# Altium integrated library 885012004001_Altium_WCAP-CSGP_rev24c.IntLib: 1002 symbols (part 1 of 21)
Pins are listed as number, name and electrical type; pins without a type are passive.

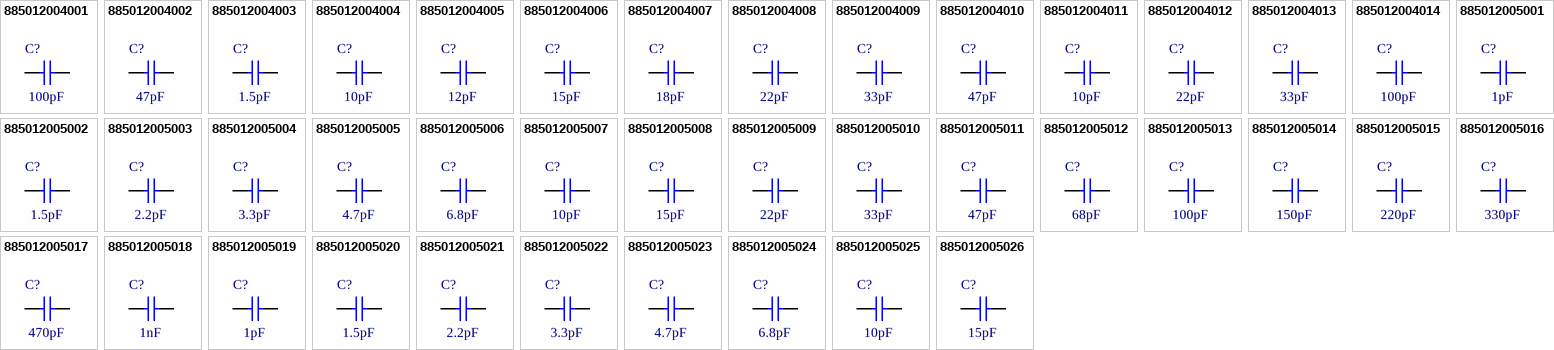
[diagram p0: symbols 885012004001 to 885012005026]

## 885012004001
designator C?, comment 100pF
WCAP-CSGP Multilayer Ceramic Chip Capacitor, General Purpose, size 0201, NP0 Class I, 100pF, 25V; Manufacturer Part Number: 885012004001; Manufacturer: Wurth Elektronik; Case/Size Code: 0201; Capacitance Tolerance: +/-5%; Insulation Resistance: 10GΩ; Q Factor: 1000; Technical Reference: NP00201101J025DFCT10000; Category: Multilayer Ceramic Chip Capacitors; Match Code: WCAP-CSGP; ComponentLink1Description: Website Link; ComponentLink1URL: https://www.we-online.com/redexpert/article/885012004001?ad; ComponentLink2Description: Datasheet Link; ComponentLink2URL: https://www.we-online.com/redexpert/spec/885012004001?ad; Mount: Surface Mount; Min Operating Temperature: -55°C; Max Operating Temperature: 125°C; Packaging: Tape and Reel; Length: 0.6mm; Width: 0.3mm; Height: 0.3mm; Capacitance: 100pF; Ceramic Type: NP0 Class I; Rated Voltage (DC): 25V
footprint WCAP-CSGP_0201_L0.6W0.3H0.3
simulation model 0201_885012004001_100pF
pins: 1, 2

## 885012004002
designator C?, comment 47pF
WCAP-CSGP Multilayer Ceramic Chip Capacitor, General Purpose, size 0201, NP0 Class I, 47pF, 50V; Manufacturer Part Number: 885012004002; Manufacturer: Wurth Elektronik; Case/Size Code: 0201; Capacitance Tolerance: +/-5%; Insulation Resistance: 10GΩ; Q Factor: 1000; Technical Reference: NP00201470J050DFCT10000; Category: Multilayer Ceramic Chip Capacitors; Match Code: WCAP-CSGP; ComponentLink1Description: Website Link; ComponentLink1URL: https://www.we-online.com/redexpert/article/885012004002?ad; ComponentLink2Description: Datasheet Link; ComponentLink2URL: https://www.we-online.com/redexpert/spec/885012004002?ad; Mount: Surface Mount; Min Operating Temperature: -55°C; Max Operating Temperature: 125°C; Packaging: Tape and Reel; Length: 0.6mm; Width: 0.3mm; Height: 0.3mm; Capacitance: 47pF; Ceramic Type: NP0 Class I; Rated Voltage (DC): 50V
footprint WCAP-CSGP_0201_L0.6W0.3H0.3
simulation model 0201_885012004002_47pF
pins: 1, 2

## 885012004003
designator C?, comment 1.5pF
WCAP-CSGP Multilayer Ceramic Chip Capacitor, General Purpose, size 0201, NP0 Class I, 1.5pF, 25V; Manufacturer Part Number: 885012004003; Manufacturer: Wurth Elektronik; Case/Size Code: 0201; Capacitance Tolerance: +/-0.25pF; Insulation Resistance: 10GΩ; Q Factor: 430; Technical Reference: NP002011R5C025DFCT10000; Category: Multilayer Ceramic Chip Capacitors; Match Code: WCAP-CSGP; ComponentLink1Description: Website Link; ComponentLink1URL: https://www.we-online.com/redexpert/article/885012004003?ad; ComponentLink2Description: Datasheet Link; ComponentLink2URL: https://www.we-online.com/redexpert/spec/885012004003?ad; Mount: Surface Mount; Min Operating Temperature: -55°C; Max Operating Temperature: 125°C; Packaging: Tape and Reel; Length: 0.6mm; Width: 0.3mm; Height: 0.3mm; Capacitance: 1.5pF; Ceramic Type: NP0 Class I; Rated Voltage (DC): 25V
footprint WCAP-CSGP_0201_L0.6W0.3H0.3
simulation model 0201_885012004003_1.5pF
pins: 1, 2

## 885012004004
designator C?, comment 10pF
WCAP-CSGP Multilayer Ceramic Chip Capacitor, General Purpose, size 0201, NP0 Class I, 10pF, 25V; Manufacturer Part Number: 885012004004; Manufacturer: Wurth Elektronik; Case/Size Code: 0201; Capacitance Tolerance: +/-5%; Insulation Resistance: 10GΩ; Q Factor: 600; Technical Reference: NP00201100J025DFCT10000; Category: Multilayer Ceramic Chip Capacitors; Match Code: WCAP-CSGP; ComponentLink1Description: Website Link; ComponentLink1URL: https://www.we-online.com/redexpert/article/885012004004?ad; ComponentLink2Description: Datasheet Link; ComponentLink2URL: https://www.we-online.com/redexpert/spec/885012004004?ad; Mount: Surface Mount; Min Operating Temperature: -55°C; Max Operating Temperature: 125°C; Packaging: Tape and Reel; Length: 0.6mm; Width: 0.3mm; Height: 0.3mm; Capacitance: 10pF; Ceramic Type: NP0 Class I; Rated Voltage (DC): 25V
footprint WCAP-CSGP_0201_L0.6W0.3H0.3
simulation model 0201_885012004004_10pF
pins: 1, 2

## 885012004005
designator C?, comment 12pF
WCAP-CSGP Multilayer Ceramic Chip Capacitor, General Purpose, size 0201, NP0 Class I, 12pF, 25V; Manufacturer Part Number: 885012004005; Manufacturer: Wurth Elektronik; Case/Size Code: 0201; Capacitance Tolerance: +/-5%; Insulation Resistance: 10GΩ; Q Factor: 640; Technical Reference: NP00201120J025DFCT10000; Category: Multilayer Ceramic Chip Capacitors; Match Code: WCAP-CSGP; ComponentLink1Description: Website Link; ComponentLink1URL: https://www.we-online.com/redexpert/article/885012004005?ad; ComponentLink2Description: Datasheet Link; ComponentLink2URL: https://www.we-online.com/redexpert/spec/885012004005?ad; Mount: Surface Mount; Min Operating Temperature: -55°C; Max Operating Temperature: 125°C; Packaging: Tape and Reel; Length: 0.6mm; Width: 0.3mm; Height: 0.3mm; Capacitance: 12pF; Ceramic Type: NP0 Class I; Rated Voltage (DC): 25V
footprint WCAP-CSGP_0201_L0.6W0.3H0.3
simulation model 0201_885012004005_12pF
pins: 1, 2

## 885012004006
designator C?, comment 15pF
WCAP-CSGP Multilayer Ceramic Chip Capacitor, General Purpose, size 0201, NP0 Class I, 15pF, 25V; Manufacturer Part Number: 885012004006; Manufacturer: Wurth Elektronik; Case/Size Code: 0201; Capacitance Tolerance: +/-5%; Insulation Resistance: 10GΩ; Q Factor: 700; Technical Reference: NP00201150J025DFCT10000; Category: Multilayer Ceramic Chip Capacitors; Match Code: WCAP-CSGP; ComponentLink1Description: Website Link; ComponentLink1URL: https://www.we-online.com/redexpert/article/885012004006?ad; ComponentLink2Description: Datasheet Link; ComponentLink2URL: https://www.we-online.com/redexpert/spec/885012004006?ad; Mount: Surface Mount; Min Operating Temperature: -55°C; Max Operating Temperature: 125°C; Packaging: Tape and Reel; Length: 0.6mm; Width: 0.3mm; Height: 0.3mm; Capacitance: 15pF; Ceramic Type: NP0 Class I; Rated Voltage (DC): 25V
footprint WCAP-CSGP_0201_L0.6W0.3H0.3
simulation model 0201_885012004006_15pF
pins: 1, 2

## 885012004007
designator C?, comment 18pF
WCAP-CSGP Multilayer Ceramic Chip Capacitor, General Purpose, size 0201, NP0 Class I, 18pF, 25V; Manufacturer Part Number: 885012004007; Manufacturer: Wurth Elektronik; Case/Size Code: 0201; Capacitance Tolerance: +/-5%; Insulation Resistance: 10GΩ; Q Factor: 760; Technical Reference: NP00201180J025DFCT10000; Category: Multilayer Ceramic Chip Capacitors; Match Code: WCAP-CSGP; ComponentLink1Description: Website Link; ComponentLink1URL: https://www.we-online.com/redexpert/article/885012004007?ad; ComponentLink2Description: Datasheet Link; ComponentLink2URL: https://www.we-online.com/redexpert/spec/885012004007?ad; Mount: Surface Mount; Min Operating Temperature: -55°C; Max Operating Temperature: 125°C; Packaging: Tape and Reel; Length: 0.6mm; Width: 0.3mm; Height: 0.3mm; Capacitance: 18pF; Ceramic Type: NP0 Class I; Rated Voltage (DC): 25V
footprint WCAP-CSGP_0201_L0.6W0.3H0.3
simulation model 0201_885012004007_18pF
pins: 1, 2

## 885012004008
designator C?, comment 22pF
WCAP-CSGP Multilayer Ceramic Chip Capacitor, General Purpose, size 0201, NP0 Class I, 22pF, 25V; Manufacturer Part Number: 885012004008; Manufacturer: Wurth Elektronik; Case/Size Code: 0201; Capacitance Tolerance: +/-5%; Insulation Resistance: 10GΩ; Q Factor: 840; Technical Reference: NP00201220J025DFCT10000; Category: Multilayer Ceramic Chip Capacitors; Match Code: WCAP-CSGP; ComponentLink1Description: Website Link; ComponentLink1URL: https://www.we-online.com/redexpert/article/885012004008?ad; ComponentLink2Description: Datasheet Link; ComponentLink2URL: https://www.we-online.com/redexpert/spec/885012004008?ad; Mount: Surface Mount; Min Operating Temperature: -55°C; Max Operating Temperature: 125°C; Packaging: Tape and Reel; Length: 0.6mm; Width: 0.3mm; Height: 0.3mm; Capacitance: 22pF; Ceramic Type: NP0 Class I; Rated Voltage (DC): 25V
footprint WCAP-CSGP_0201_L0.6W0.3H0.3
simulation model 0201_885012004008_22pF
pins: 1, 2

## 885012004009
designator C?, comment 33pF
WCAP-CSGP Multilayer Ceramic Chip Capacitor, General Purpose, size 0201, NP0 Class I, 33pF, 25V; Manufacturer Part Number: 885012004009; Manufacturer: Wurth Elektronik; Case/Size Code: 0201; Capacitance Tolerance: +/-5%; Insulation Resistance: 10GΩ; Q Factor: 1000; Technical Reference: NP00201330J025DFCT10000; Category: Multilayer Ceramic Chip Capacitors; Match Code: WCAP-CSGP; ComponentLink1Description: Website Link; ComponentLink1URL: https://www.we-online.com/redexpert/article/885012004009?ad; ComponentLink2Description: Datasheet Link; ComponentLink2URL: https://www.we-online.com/redexpert/spec/885012004009?ad; Mount: Surface Mount; Min Operating Temperature: -55°C; Max Operating Temperature: 125°C; Packaging: Tape and Reel; Length: 0.6mm; Width: 0.3mm; Height: 0.3mm; Capacitance: 33pF; Ceramic Type: NP0 Class I; Rated Voltage (DC): 25V
footprint WCAP-CSGP_0201_L0.6W0.3H0.3
simulation model 0201_885012004009_33pF
pins: 1, 2

## 885012004010
designator C?, comment 47pF
WCAP-CSGP Multilayer Ceramic Chip Capacitor, General Purpose, size 0201, NP0 Class I, 47pF, 25V; Manufacturer Part Number: 885012004010; Manufacturer: Wurth Elektronik; Case/Size Code: 0201; Capacitance Tolerance: +/-10%; Insulation Resistance: 10GΩ; Q Factor: 1000; Technical Reference: NP00201470J025DFCT10000; Category: Multilayer Ceramic Chip Capacitors; Match Code: WCAP-CSGP; ComponentLink1Description: Website Link; ComponentLink1URL: https://www.we-online.com/redexpert/article/885012004010?ad; ComponentLink2Description: Datasheet Link; ComponentLink2URL: https://www.we-online.com/redexpert/spec/885012004010?ad; Mount: Surface Mount; Min Operating Temperature: -55°C; Max Operating Temperature: 125°C; Packaging: Tape and Reel; Length: 0.6mm; Width: 0.3mm; Height: 0.3mm; Capacitance: 47pF; Ceramic Type: NP0 Class I; Rated Voltage (DC): 25V
footprint WCAP-CSGP_0201_L0.6W0.3H0.3
simulation model 0201_885012004010_47pF
pins: 1, 2

## 885012004011
designator C?, comment 10pF
WCAP-CSGP Multilayer Ceramic Chip Capacitor, General Purpose, size 0201, NP0 Class I, 10pF, 50V; Manufacturer Part Number: 885012004011; Manufacturer: Wurth Elektronik; Case/Size Code: 0201; Capacitance Tolerance: +/-5%; Insulation Resistance: 10GΩ; Q Factor: 600; Technical Reference: NP00201100J050DFCT10000; Category: Multilayer Ceramic Chip Capacitors; Match Code: WCAP-CSGP; ComponentLink1Description: Website Link; ComponentLink1URL: https://www.we-online.com/redexpert/article/885012004011?ad; ComponentLink2Description: Datasheet Link; ComponentLink2URL: https://www.we-online.com/redexpert/spec/885012004011?ad; Mount: Surface Mount; Min Operating Temperature: -55°C; Max Operating Temperature: 125°C; Packaging: Tape and Reel; Length: 0.6mm; Width: 0.3mm; Height: 0.3mm; Capacitance: 10pF; Ceramic Type: NP0 Class I; Rated Voltage (DC): 50V
footprint WCAP-CSGP_0201_L0.6W0.3H0.3
simulation model 0201_885012004011_10pF
pins: 1, 2

## 885012004012
designator C?, comment 22pF
WCAP-CSGP Multilayer Ceramic Chip Capacitor, General Purpose, size 0201, NP0 Class I, 22pF, 50V; Manufacturer Part Number: 885012004012; Manufacturer: Wurth Elektronik; Case/Size Code: 0201; Capacitance Tolerance: +/-5%; Insulation Resistance: 10GΩ; Q Factor: 840; Technical Reference: NP00201220J050DFCT10000; Category: Multilayer Ceramic Chip Capacitors; Match Code: WCAP-CSGP; ComponentLink1Description: Website Link; ComponentLink1URL: https://www.we-online.com/redexpert/article/885012004012?ad; ComponentLink2Description: Datasheet Link; ComponentLink2URL: https://www.we-online.com/redexpert/spec/885012004012?ad; Mount: Surface Mount; Min Operating Temperature: -55°C; Max Operating Temperature: 125°C; Packaging: Tape and Reel; Length: 0.6mm; Width: 0.3mm; Height: 0.3mm; Capacitance: 22pF; Ceramic Type: NP0 Class I; Rated Voltage (DC): 50V
footprint WCAP-CSGP_0201_L0.6W0.3H0.3
simulation model 0201_885012004012_22pF
pins: 1, 2

## 885012004013
designator C?, comment 33pF
WCAP-CSGP Multilayer Ceramic Chip Capacitor, General Purpose, size 0201, NP0 Class I, 33pF, 50V; Manufacturer Part Number: 885012004013; Manufacturer: Wurth Elektronik; Case/Size Code: 0201; Capacitance Tolerance: +/-5%; Insulation Resistance: 10GΩ; Q Factor: 1000; Technical Reference: NP00201330J050DFCT10000; Category: Multilayer Ceramic Chip Capacitors; Match Code: WCAP-CSGP; ComponentLink1Description: Website Link; ComponentLink1URL: https://www.we-online.com/redexpert/article/885012004013?ad; ComponentLink2Description: Datasheet Link; ComponentLink2URL: https://www.we-online.com/redexpert/spec/885012004013?ad; Mount: Surface Mount; Min Operating Temperature: -55°C; Max Operating Temperature: 125°C; Packaging: Tape and Reel; Length: 0.6mm; Width: 0.3mm; Height: 0.3mm; Capacitance: 33pF; Ceramic Type: NP0 Class I; Rated Voltage (DC): 50V
footprint WCAP-CSGP_0201_L0.6W0.3H0.3
simulation model 0201_885012004013_33pF
pins: 1, 2

## 885012004014
designator C?, comment 100pF
WCAP-CSGP Multilayer Ceramic Chip Capacitor, General Purpose, size 0201, NP0 Class I, 100pF, 50V; Manufacturer Part Number: 885012004014; Manufacturer: Wurth Elektronik; Case/Size Code: 0201; Capacitance Tolerance: +/-5%; Insulation Resistance: 10GΩ; Q Factor: 1000; Technical Reference: NP00201101J050DFCT10000; Category: Multilayer Ceramic Chip Capacitors; Match Code: WCAP-CSGP; ComponentLink1Description: Website Link; ComponentLink1URL: https://www.we-online.com/redexpert/article/885012004014?ad; ComponentLink2Description: Datasheet Link; ComponentLink2URL: https://www.we-online.com/redexpert/spec/885012004014?ad; Mount: Surface Mount; Min Operating Temperature: -55°C; Max Operating Temperature: 125°C; Packaging: Tape and Reel; Length: 0.6mm; Width: 0.3mm; Height: 0.3mm; Capacitance: 100pF; Ceramic Type: NP0 Class I; Rated Voltage (DC): 50V
footprint WCAP-CSGP_0201_L0.6W0.3H0.3
simulation model 0201_885012004014_100pF
pins: 1, 2

## 885012005001
designator C?, comment 1pF
WCAP-CSGP Multilayer Ceramic Chip Capacitor, General Purpose, size 0402, NP0, 1pF, 10V; Manufacturer Part Number: 885012005001; Manufacturer: Wurth Elektronik; Case/Size Code: 0402; Capacitance Tolerance: +/-0.5pF; Insulation Resistance: 10GΩ; Q Factor: 420; Technical Reference: NP004021R0D010DFCT10000; Category: Multilayer Ceramic Chip Capacitors; Match Code: WCAP-CSGP; ComponentLink1Description: Website Link; ComponentLink1URL: https://www.we-online.com/redexpert/article/885012005001?ad; ComponentLink2Description: Datasheet Link; ComponentLink2URL: https://www.we-online.com/redexpert/spec/885012005001?ad; Mount: Surface Mount; Min Operating Temperature: -55°C; Max Operating Temperature: 125°C; Packaging: Tape and Reel; Length: 1mm; Width: 0.5mm; Height: 0.5mm; Capacitance: 1pF; Ceramic Type: NP0; Rated Voltage (DC): 10V
footprint WCAP-CSGP_0402_L1W0.5H0.5
pins: 1, 2

## 885012005002
designator C?, comment 1.5pF
WCAP-CSGP Multilayer Ceramic Chip Capacitor, General Purpose, size 0402, NP0, 1.5pF, 10V; Manufacturer Part Number: 885012005002; Manufacturer: Wurth Elektronik; Case/Size Code: 0402; Capacitance Tolerance: +/-0.5pF; Insulation Resistance: 10GΩ; Q Factor: 430; Technical Reference: NP004021R5D010DFCT10000; Category: Multilayer Ceramic Chip Capacitors; Match Code: WCAP-CSGP; ComponentLink1Description: Website Link; ComponentLink1URL: https://www.we-online.com/redexpert/article/885012005002?ad; ComponentLink2Description: Datasheet Link; ComponentLink2URL: https://www.we-online.com/redexpert/spec/885012005002?ad; Mount: Surface Mount; Min Operating Temperature: -55°C; Max Operating Temperature: 125°C; Packaging: Tape and Reel; Length: 1mm; Width: 0.5mm; Height: 0.5mm; Capacitance: 1.5pF; Ceramic Type: NP0; Rated Voltage (DC): 10V
footprint WCAP-CSGP_0402_L1W0.5H0.5
pins: 1, 2

## 885012005003
designator C?, comment 2.2pF
WCAP-CSGP Multilayer Ceramic Chip Capacitor, General Purpose, size 0402, NP0, 2.2pF, 10V; Manufacturer Part Number: 885012005003; Manufacturer: Wurth Elektronik; Case/Size Code: 0402; Capacitance Tolerance: +/-0.5pF; Insulation Resistance: 10GΩ; Q Factor: 444; Technical Reference: NP004022R2D010DFCT10000; Category: Multilayer Ceramic Chip Capacitors; Match Code: WCAP-CSGP; ComponentLink1Description: Website Link; ComponentLink1URL: https://www.we-online.com/redexpert/article/885012005003?ad; ComponentLink2Description: Datasheet Link; ComponentLink2URL: https://www.we-online.com/redexpert/spec/885012005003?ad; Mount: Surface Mount; Min Operating Temperature: -55°C; Max Operating Temperature: 125°C; Packaging: Tape and Reel; Length: 1mm; Width: 0.5mm; Height: 0.5mm; Capacitance: 2.2pF; Ceramic Type: NP0; Rated Voltage (DC): 10V
footprint WCAP-CSGP_0402_L1W0.5H0.5
pins: 1, 2

## 885012005004
designator C?, comment 3.3pF
WCAP-CSGP Multilayer Ceramic Chip Capacitor, General Purpose, size 0402, NP0, 3.3pF, 10V; Manufacturer Part Number: 885012005004; Manufacturer: Wurth Elektronik; Case/Size Code: 0402; Capacitance Tolerance: +/-0.5pF; Insulation Resistance: 10GΩ; Q Factor: 466; Technical Reference: NP004023R3D010DFCT10000; Category: Multilayer Ceramic Chip Capacitors; Match Code: WCAP-CSGP; ComponentLink1Description: Website Link; ComponentLink1URL: https://www.we-online.com/redexpert/article/885012005004?ad; ComponentLink2Description: Datasheet Link; ComponentLink2URL: https://www.we-online.com/redexpert/spec/885012005004?ad; Mount: Surface Mount; Min Operating Temperature: -55°C; Max Operating Temperature: 125°C; Packaging: Tape and Reel; Length: 1mm; Width: 0.5mm; Height: 0.5mm; Capacitance: 3.3pF; Ceramic Type: NP0; Rated Voltage (DC): 10V
footprint WCAP-CSGP_0402_L1W0.5H0.5
pins: 1, 2

## 885012005005
designator C?, comment 4.7pF
WCAP-CSGP Multilayer Ceramic Chip Capacitor, General Purpose, size 0402, NP0, 4.7pF, 10V; Manufacturer Part Number: 885012005005; Manufacturer: Wurth Elektronik; Case/Size Code: 0402; Capacitance Tolerance: +/-0.5pF; Insulation Resistance: 10GΩ; Q Factor: 494; Technical Reference: NP004024R7D010DFCT10000; Category: Multilayer Ceramic Chip Capacitors; Match Code: WCAP-CSGP; ComponentLink1Description: Website Link; ComponentLink1URL: https://www.we-online.com/redexpert/article/885012005005?ad; ComponentLink2Description: Datasheet Link; ComponentLink2URL: https://www.we-online.com/redexpert/spec/885012005005?ad; Mount: Surface Mount; Min Operating Temperature: -55°C; Max Operating Temperature: 125°C; Packaging: Tape and Reel; Length: 1mm; Width: 0.5mm; Height: 0.5mm; Capacitance: 4.7pF; Ceramic Type: NP0; Rated Voltage (DC): 10V
footprint WCAP-CSGP_0402_L1W0.5H0.5
pins: 1, 2

## 885012005006
designator C?, comment 6.8pF
WCAP-CSGP Multilayer Ceramic Chip Capacitor, General Purpose, size 0402, NP0, 6.8pF, 10V; Manufacturer Part Number: 885012005006; Manufacturer: Wurth Elektronik; Case/Size Code: 0402; Capacitance Tolerance: +/-0.5pF; Insulation Resistance: 10GΩ; Q Factor: 536; Technical Reference: NP004026R8D010DFCT10000; Category: Multilayer Ceramic Chip Capacitors; Match Code: WCAP-CSGP; ComponentLink1Description: Website Link; ComponentLink1URL: https://www.we-online.com/redexpert/article/885012005006?ad; ComponentLink2Description: Datasheet Link; ComponentLink2URL: https://www.we-online.com/redexpert/spec/885012005006?ad; Mount: Surface Mount; Min Operating Temperature: -55°C; Max Operating Temperature: 125°C; Packaging: Tape and Reel; Length: 1mm; Width: 0.5mm; Height: 0.5mm; Capacitance: 6.8pF; Ceramic Type: NP0; Rated Voltage (DC): 10V
footprint WCAP-CSGP_0402_L1W0.5H0.5
pins: 1, 2

## 885012005007
designator C?, comment 10pF
WCAP-CSGP Multilayer Ceramic Chip Capacitor, General Purpose, size 0402, NP0, 10pF, 10V; Manufacturer Part Number: 885012005007; Manufacturer: Wurth Elektronik; Case/Size Code: 0402; Capacitance Tolerance: +/-5%; Insulation Resistance: 10GΩ; Q Factor: 600; Technical Reference: NP00402100J010DFCT10000; Category: Multilayer Ceramic Chip Capacitors; Match Code: WCAP-CSGP; ComponentLink1Description: Website Link; ComponentLink1URL: https://www.we-online.com/redexpert/article/885012005007?ad; ComponentLink2Description: Datasheet Link; ComponentLink2URL: https://www.we-online.com/redexpert/spec/885012005007?ad; Mount: Surface Mount; Min Operating Temperature: -55°C; Max Operating Temperature: 125°C; Packaging: Tape and Reel; Length: 1mm; Width: 0.5mm; Height: 0.5mm; Capacitance: 10pF; Ceramic Type: NP0; Rated Voltage (DC): 10V
footprint WCAP-CSGP_0402_L1W0.5H0.5
simulation model 0402_885012005007_10pF
pins: 1, 2

## 885012005008
designator C?, comment 15pF
WCAP-CSGP Multilayer Ceramic Chip Capacitor, General Purpose, size 0402, NP0, 15pF, 10V; Manufacturer Part Number: 885012005008; Manufacturer: Wurth Elektronik; Case/Size Code: 0402; Capacitance Tolerance: +/-5%; Insulation Resistance: 10GΩ; Q Factor: 700; Technical Reference: NP00402150J010DFCT10000; Category: Multilayer Ceramic Chip Capacitors; Match Code: WCAP-CSGP; ComponentLink1Description: Website Link; ComponentLink1URL: https://www.we-online.com/redexpert/article/885012005008?ad; ComponentLink2Description: Datasheet Link; ComponentLink2URL: https://www.we-online.com/redexpert/spec/885012005008?ad; Mount: Surface Mount; Min Operating Temperature: -55°C; Max Operating Temperature: 125°C; Packaging: Tape and Reel; Length: 1mm; Width: 0.5mm; Height: 0.5mm; Capacitance: 15pF; Ceramic Type: NP0; Rated Voltage (DC): 10V
footprint WCAP-CSGP_0402_L1W0.5H0.5
simulation model 0402_885012005008_15pF
pins: 1, 2

## 885012005009
designator C?, comment 22pF
WCAP-CSGP Multilayer Ceramic Chip Capacitor, General Purpose, size 0402, NP0, 22pF, 10V; Manufacturer Part Number: 885012005009; Manufacturer: Wurth Elektronik; Case/Size Code: 0402; Capacitance Tolerance: +/-5%; Insulation Resistance: 10GΩ; Q Factor: 840; Technical Reference: NP00402220J010DFCT10000; Category: Multilayer Ceramic Chip Capacitors; Match Code: WCAP-CSGP; ComponentLink1Description: Website Link; ComponentLink1URL: https://www.we-online.com/redexpert/article/885012005009?ad; ComponentLink2Description: Datasheet Link; ComponentLink2URL: https://www.we-online.com/redexpert/spec/885012005009?ad; Mount: Surface Mount; Min Operating Temperature: -55°C; Max Operating Temperature: 125°C; Packaging: Tape and Reel; Length: 1mm; Width: 0.5mm; Height: 0.5mm; Capacitance: 22pF; Ceramic Type: NP0; Rated Voltage (DC): 10V
footprint WCAP-CSGP_0402_L1W0.5H0.5
simulation model 0402_885012005009_22pF
pins: 1, 2

## 885012005010
designator C?, comment 33pF
WCAP-CSGP Multilayer Ceramic Chip Capacitor, General Purpose, size 0402, NP0, 33pF, 10V; Manufacturer Part Number: 885012005010; Manufacturer: Wurth Elektronik; Case/Size Code: 0402; Capacitance Tolerance: +/-5%; Insulation Resistance: 10GΩ; Q Factor: 1000; Technical Reference: NP00402330J010DFCT10000; Category: Multilayer Ceramic Chip Capacitors; Match Code: WCAP-CSGP; ComponentLink1Description: Website Link; ComponentLink1URL: https://www.we-online.com/redexpert/article/885012005010?ad; ComponentLink2Description: Datasheet Link; ComponentLink2URL: https://www.we-online.com/redexpert/spec/885012005010?ad; Mount: Surface Mount; Min Operating Temperature: -55°C; Max Operating Temperature: 125°C; Packaging: Tape and Reel; Length: 1mm; Width: 0.5mm; Height: 0.5mm; Capacitance: 33pF; Ceramic Type: NP0; Rated Voltage (DC): 10V
footprint WCAP-CSGP_0402_L1W0.5H0.5
simulation model 0402_885012005010_33pF
pins: 1, 2

## 885012005011
designator C?, comment 47pF
WCAP-CSGP Multilayer Ceramic Chip Capacitor, General Purpose, size 0402, NP0, 47pF, 10V; Manufacturer Part Number: 885012005011; Manufacturer: Wurth Elektronik; Case/Size Code: 0402; Capacitance Tolerance: +/-5%; Insulation Resistance: 10GΩ; Q Factor: 1000; Technical Reference: NP00402470J010DFCT10000; Category: Multilayer Ceramic Chip Capacitors; Match Code: WCAP-CSGP; ComponentLink1Description: Website Link; ComponentLink1URL: https://www.we-online.com/redexpert/article/885012005011?ad; ComponentLink2Description: Datasheet Link; ComponentLink2URL: https://www.we-online.com/redexpert/spec/885012005011?ad; Mount: Surface Mount; Min Operating Temperature: -55°C; Max Operating Temperature: 125°C; Packaging: Tape and Reel; Length: 1mm; Width: 0.5mm; Height: 0.5mm; Capacitance: 47pF; Ceramic Type: NP0; Rated Voltage (DC): 10V
footprint WCAP-CSGP_0402_L1W0.5H0.5
simulation model 0402_885012005011_47pF
pins: 1, 2

## 885012005012
designator C?, comment 68pF
WCAP-CSGP Multilayer Ceramic Chip Capacitor, General Purpose, size 0402, NP0, 68pF, 10V; Manufacturer Part Number: 885012005012; Manufacturer: Wurth Elektronik; Case/Size Code: 0402; Capacitance Tolerance: +/-5%; Insulation Resistance: 10GΩ; Q Factor: 1000; Technical Reference: NP00402680J010DFCT10000; Category: Multilayer Ceramic Chip Capacitors; Match Code: WCAP-CSGP; ComponentLink1Description: Website Link; ComponentLink1URL: https://www.we-online.com/redexpert/article/885012005012?ad; ComponentLink2Description: Datasheet Link; ComponentLink2URL: https://www.we-online.com/redexpert/spec/885012005012?ad; Mount: Surface Mount; Min Operating Temperature: -55°C; Max Operating Temperature: 125°C; Packaging: Tape and Reel; Length: 1mm; Width: 0.5mm; Height: 0.5mm; Capacitance: 68pF; Ceramic Type: NP0; Rated Voltage (DC): 10V
footprint WCAP-CSGP_0402_L1W0.5H0.5
simulation model 0402_885012005012_68pF
pins: 1, 2

## 885012005013
designator C?, comment 100pF
WCAP-CSGP Multilayer Ceramic Chip Capacitor, General Purpose, size 0402, NP0, 100pF, 10V; Manufacturer Part Number: 885012005013; Manufacturer: Wurth Elektronik; Case/Size Code: 0402; Capacitance Tolerance: +/-5%; Insulation Resistance: 10GΩ; Q Factor: 1000; Technical Reference: NP00402101J010DFCT10000; Category: Multilayer Ceramic Chip Capacitors; Match Code: WCAP-CSGP; ComponentLink1Description: Website Link; ComponentLink1URL: https://www.we-online.com/redexpert/article/885012005013?ad; ComponentLink2Description: Datasheet Link; ComponentLink2URL: https://www.we-online.com/redexpert/spec/885012005013?ad; Mount: Surface Mount; Min Operating Temperature: -55°C; Max Operating Temperature: 125°C; Packaging: Tape and Reel; Length: 1mm; Width: 0.5mm; Height: 0.5mm; Capacitance: 100pF; Ceramic Type: NP0; Rated Voltage (DC): 10V
footprint WCAP-CSGP_0402_L1W0.5H0.5
simulation model 0402_885012005013_100pF
pins: 1, 2

## 885012005014
designator C?, comment 150pF
WCAP-CSGP Multilayer Ceramic Chip Capacitor, General Purpose, size 0402, NP0, 150pF, 10V; Manufacturer Part Number: 885012005014; Manufacturer: Wurth Elektronik; Case/Size Code: 0402; Capacitance Tolerance: +/-5%; Insulation Resistance: 10GΩ; Q Factor: 1000; Technical Reference: NP00402151J010DFCT10000; Category: Multilayer Ceramic Chip Capacitors; Match Code: WCAP-CSGP; ComponentLink1Description: Website Link; ComponentLink1URL: https://www.we-online.com/redexpert/article/885012005014?ad; ComponentLink2Description: Datasheet Link; ComponentLink2URL: https://www.we-online.com/redexpert/spec/885012005014?ad; Mount: Surface Mount; Min Operating Temperature: -55°C; Max Operating Temperature: 125°C; Packaging: Tape and Reel; Length: 1mm; Width: 0.5mm; Height: 0.5mm; Capacitance: 150pF; Ceramic Type: NP0; Rated Voltage (DC): 10V
footprint WCAP-CSGP_0402_L1W0.5H0.5
simulation model 0402_885012005014_150pF
pins: 1, 2

## 885012005015
designator C?, comment 220pF
WCAP-CSGP Multilayer Ceramic Chip Capacitor, General Purpose, size 0402, NP0, 220pF, 10V; Manufacturer Part Number: 885012005015; Manufacturer: Wurth Elektronik; Case/Size Code: 0402; Capacitance Tolerance: +/-5%; Insulation Resistance: 10GΩ; Q Factor: 1000; Technical Reference: NP00402221J010DFCT10000; Category: Multilayer Ceramic Chip Capacitors; Match Code: WCAP-CSGP; ComponentLink1Description: Website Link; ComponentLink1URL: https://www.we-online.com/redexpert/article/885012005015?ad; ComponentLink2Description: Datasheet Link; ComponentLink2URL: https://www.we-online.com/redexpert/spec/885012005015?ad; Mount: Surface Mount; Min Operating Temperature: -55°C; Max Operating Temperature: 125°C; Packaging: Tape and Reel; Length: 1mm; Width: 0.5mm; Height: 0.5mm; Capacitance: 220pF; Ceramic Type: NP0; Rated Voltage (DC): 10V
footprint WCAP-CSGP_0402_L1W0.5H0.5
simulation model 0402_885012005015_220pF
pins: 1, 2

## 885012005016
designator C?, comment 330pF
WCAP-CSGP Multilayer Ceramic Chip Capacitor, General Purpose, size 0402, NP0, 330pF, 10V; Manufacturer Part Number: 885012005016; Manufacturer: Wurth Elektronik; Case/Size Code: 0402; Capacitance Tolerance: +/-5%; Insulation Resistance: 10GΩ; Q Factor: 1000; Technical Reference: NP00402331J010DFCT10000; Category: Multilayer Ceramic Chip Capacitors; Match Code: WCAP-CSGP; ComponentLink1Description: Website Link; ComponentLink1URL: https://www.we-online.com/redexpert/article/885012005016?ad; ComponentLink2Description: Datasheet Link; ComponentLink2URL: https://www.we-online.com/redexpert/spec/885012005016?ad; Mount: Surface Mount; Min Operating Temperature: -55°C; Max Operating Temperature: 125°C; Packaging: Tape and Reel; Length: 1mm; Width: 0.5mm; Height: 0.5mm; Capacitance: 330pF; Ceramic Type: NP0; Rated Voltage (DC): 10V
footprint WCAP-CSGP_0402_L1W0.5H0.5
simulation model 0402_885012005016_330pF
pins: 1, 2

## 885012005017
designator C?, comment 470pF
WCAP-CSGP Multilayer Ceramic Chip Capacitor, General Purpose, size 0402, NP0, 470pF, 10V; Manufacturer Part Number: 885012005017; Manufacturer: Wurth Elektronik; Case/Size Code: 0402; Capacitance Tolerance: +/-5%; Insulation Resistance: 10GΩ; Q Factor: 1000; Technical Reference: NP00402471J010DFCT10000; Category: Multilayer Ceramic Chip Capacitors; Match Code: WCAP-CSGP; ComponentLink1Description: Website Link; ComponentLink1URL: https://www.we-online.com/redexpert/article/885012005017?ad; ComponentLink2Description: Datasheet Link; ComponentLink2URL: https://www.we-online.com/redexpert/spec/885012005017?ad; Mount: Surface Mount; Min Operating Temperature: -55°C; Max Operating Temperature: 125°C; Packaging: Tape and Reel; Length: 1mm; Width: 0.5mm; Height: 0.5mm; Capacitance: 470pF; Ceramic Type: NP0; Rated Voltage (DC): 10V
footprint WCAP-CSGP_0402_L1W0.5H0.5
simulation model 0402_885012005017_470pF
pins: 1, 2

## 885012005018
designator C?, comment 1nF
WCAP-CSGP Multilayer Ceramic Chip Capacitor, General Purpose, size 0402, NP0, 1nF, 10V; Manufacturer Part Number: 885012005018; Manufacturer: Wurth Elektronik; Case/Size Code: 0402; Capacitance Tolerance: +/-5%; Insulation Resistance: 10GΩ; Q Factor: 1000; Technical Reference: NP00402102J010DFCT10000; Category: Multilayer Ceramic Chip Capacitors; Match Code: WCAP-CSGP; ComponentLink1Description: Website Link; ComponentLink1URL: https://www.we-online.com/redexpert/article/885012005018?ad; ComponentLink2Description: Datasheet Link; ComponentLink2URL: https://www.we-online.com/redexpert/spec/885012005018?ad; Mount: Surface Mount; Min Operating Temperature: -55°C; Max Operating Temperature: 125°C; Packaging: Tape and Reel; Length: 1mm; Width: 0.5mm; Height: 0.5mm; Capacitance: 1nF; Ceramic Type: NP0; Rated Voltage (DC): 10V
footprint WCAP-CSGP_0402_L1W0.5H0.5
simulation model 0402_885012005018_1nF
pins: 1, 2

## 885012005019
designator C?, comment 1pF
WCAP-CSGP Multilayer Ceramic Chip Capacitor, General Purpose, size 0402, NP0, 1pF, 16V; Manufacturer Part Number: 885012005019; Manufacturer: Wurth Elektronik; Case/Size Code: 0402; Capacitance Tolerance: +/-0.5pF; Insulation Resistance: 10GΩ; Q Factor: 420; Technical Reference: NP004021R0D016DFCT10000; Category: Multilayer Ceramic Chip Capacitors; Match Code: WCAP-CSGP; ComponentLink1Description: Website Link; ComponentLink1URL: https://www.we-online.com/redexpert/article/885012005019?ad; ComponentLink2Description: Datasheet Link; ComponentLink2URL: https://www.we-online.com/redexpert/spec/885012005019?ad; Mount: Surface Mount; Min Operating Temperature: -55°C; Max Operating Temperature: 125°C; Packaging: Tape and Reel; Length: 1mm; Width: 0.5mm; Height: 0.5mm; Capacitance: 1pF; Ceramic Type: NP0; Rated Voltage (DC): 16V
footprint WCAP-CSGP_0402_L1W0.5H0.5
pins: 1, 2

## 885012005020
designator C?, comment 1.5pF
WCAP-CSGP Multilayer Ceramic Chip Capacitor, General Purpose, size 0402, NP0, 1.5pF, 16V; Manufacturer Part Number: 885012005020; Manufacturer: Wurth Elektronik; Case/Size Code: 0402; Capacitance Tolerance: +/-0.5pF; Insulation Resistance: 10GΩ; Q Factor: 430; Technical Reference: NP004021R5D016DFCT10000; Category: Multilayer Ceramic Chip Capacitors; Match Code: WCAP-CSGP; ComponentLink1Description: Website Link; ComponentLink1URL: https://www.we-online.com/redexpert/article/885012005020?ad; ComponentLink2Description: Datasheet Link; ComponentLink2URL: https://www.we-online.com/redexpert/spec/885012005020?ad; Mount: Surface Mount; Min Operating Temperature: -55°C; Max Operating Temperature: 125°C; Packaging: Tape and Reel; Length: 1mm; Width: 0.5mm; Height: 0.5mm; Capacitance: 1.5pF; Ceramic Type: NP0; Rated Voltage (DC): 16V
footprint WCAP-CSGP_0402_L1W0.5H0.5
simulation model 0402_885012005020_1.5pF
pins: 1, 2

## 885012005021
designator C?, comment 2.2pF
WCAP-CSGP Multilayer Ceramic Chip Capacitor, General Purpose, size 0402, NP0, 2.2pF, 16V; Manufacturer Part Number: 885012005021; Manufacturer: Wurth Elektronik; Case/Size Code: 0402; Capacitance Tolerance: +/-0.5pF; Insulation Resistance: 10GΩ; Q Factor: 444; Technical Reference: NP004022R2D016DFCT10000; Category: Multilayer Ceramic Chip Capacitors; Match Code: WCAP-CSGP; ComponentLink1Description: Website Link; ComponentLink1URL: https://www.we-online.com/redexpert/article/885012005021?ad; ComponentLink2Description: Datasheet Link; ComponentLink2URL: https://www.we-online.com/redexpert/spec/885012005021?ad; Mount: Surface Mount; Min Operating Temperature: -55°C; Max Operating Temperature: 125°C; Packaging: Tape and Reel; Length: 1mm; Width: 0.5mm; Height: 0.5mm; Capacitance: 2.2pF; Ceramic Type: NP0; Rated Voltage (DC): 16V
footprint WCAP-CSGP_0402_L1W0.5H0.5
simulation model 0402_885012005021_2.2pF
pins: 1, 2

## 885012005022
designator C?, comment 3.3pF
WCAP-CSGP Multilayer Ceramic Chip Capacitor, General Purpose, size 0402, NP0, 3.3pF, 16V; Manufacturer Part Number: 885012005022; Manufacturer: Wurth Elektronik; Case/Size Code: 0402; Capacitance Tolerance: +/-0.5pF; Insulation Resistance: 10GΩ; Q Factor: 466; Technical Reference: NP004023R3D016DFCT10000; Category: Multilayer Ceramic Chip Capacitors; Match Code: WCAP-CSGP; ComponentLink1Description: Website Link; ComponentLink1URL: https://www.we-online.com/redexpert/article/885012005022?ad; ComponentLink2Description: Datasheet Link; ComponentLink2URL: https://www.we-online.com/redexpert/spec/885012005022?ad; Mount: Surface Mount; Min Operating Temperature: -55°C; Max Operating Temperature: 125°C; Packaging: Tape and Reel; Length: 1mm; Width: 0.5mm; Height: 0.5mm; Capacitance: 3.3pF; Ceramic Type: NP0; Rated Voltage (DC): 16V
footprint WCAP-CSGP_0402_L1W0.5H0.5
simulation model 0402_885012005022_3.3pF
pins: 1, 2

## 885012005023
designator C?, comment 4.7pF
WCAP-CSGP Multilayer Ceramic Chip Capacitor, General Purpose, size 0402, NP0, 4.7pF, 16V; Manufacturer Part Number: 885012005023; Manufacturer: Wurth Elektronik; Case/Size Code: 0402; Capacitance Tolerance: +/-0.5pF; Insulation Resistance: 10GΩ; Q Factor: 494; Technical Reference: NP004024R7D016DFCT10000; Category: Multilayer Ceramic Chip Capacitors; Match Code: WCAP-CSGP; ComponentLink1Description: Website Link; ComponentLink1URL: https://www.we-online.com/redexpert/article/885012005023?ad; ComponentLink2Description: Datasheet Link; ComponentLink2URL: https://www.we-online.com/redexpert/spec/885012005023?ad; Mount: Surface Mount; Min Operating Temperature: -55°C; Max Operating Temperature: 125°C; Packaging: Tape and Reel; Length: 1mm; Width: 0.5mm; Height: 0.5mm; Capacitance: 4.7pF; Ceramic Type: NP0; Rated Voltage (DC): 16V
footprint WCAP-CSGP_0402_L1W0.5H0.5
simulation model 0402_885012005023_4.7pF
pins: 1, 2

## 885012005024
designator C?, comment 6.8pF
WCAP-CSGP Multilayer Ceramic Chip Capacitor, General Purpose, size 0402, NP0, 6.8pF, 16V; Manufacturer Part Number: 885012005024; Manufacturer: Wurth Elektronik; Case/Size Code: 0402; Capacitance Tolerance: +/-0.5pF; Insulation Resistance: 10GΩ; Q Factor: 536; Technical Reference: NP004026R8D016DFCT10000; Category: Multilayer Ceramic Chip Capacitors; Match Code: WCAP-CSGP; ComponentLink1Description: Website Link; ComponentLink1URL: https://www.we-online.com/redexpert/article/885012005024?ad; ComponentLink2Description: Datasheet Link; ComponentLink2URL: https://www.we-online.com/redexpert/spec/885012005024?ad; Mount: Surface Mount; Min Operating Temperature: -55°C; Max Operating Temperature: 125°C; Packaging: Tape and Reel; Length: 1mm; Width: 0.5mm; Height: 0.5mm; Capacitance: 6.8pF; Ceramic Type: NP0; Rated Voltage (DC): 16V
footprint WCAP-CSGP_0402_L1W0.5H0.5
simulation model 0402_885012005024_6.8pF
pins: 1, 2

## 885012005025
designator C?, comment 10pF
WCAP-CSGP Multilayer Ceramic Chip Capacitor, General Purpose, size 0402, NP0, 10pF, 16V; Manufacturer Part Number: 885012005025; Manufacturer: Wurth Elektronik; Case/Size Code: 0402; Capacitance Tolerance: +/-5%; Insulation Resistance: 10GΩ; Q Factor: 600; Technical Reference: NP00402100J016DFCT10000; Category: Multilayer Ceramic Chip Capacitors; Match Code: WCAP-CSGP; ComponentLink1Description: Website Link; ComponentLink1URL: https://www.we-online.com/redexpert/article/885012005025?ad; ComponentLink2Description: Datasheet Link; ComponentLink2URL: https://www.we-online.com/redexpert/spec/885012005025?ad; Mount: Surface Mount; Min Operating Temperature: -55°C; Max Operating Temperature: 125°C; Packaging: Tape and Reel; Length: 1mm; Width: 0.5mm; Height: 0.5mm; Capacitance: 10pF; Ceramic Type: NP0; Rated Voltage (DC): 16V
footprint WCAP-CSGP_0402_L1W0.5H0.5
simulation model 0402_885012005025_10pF
pins: 1, 2

## 885012005026
designator C?, comment 15pF
WCAP-CSGP Multilayer Ceramic Chip Capacitor, General Purpose, size 0402, NP0, 15pF, 16V; Manufacturer Part Number: 885012005026; Manufacturer: Wurth Elektronik; Case/Size Code: 0402; Capacitance Tolerance: +/-5%; Insulation Resistance: 10GΩ; Q Factor: 700; Technical Reference: NP00402150J016DFCT10000; Category: Multilayer Ceramic Chip Capacitors; Match Code: WCAP-CSGP; ComponentLink1Description: Website Link; ComponentLink1URL: https://www.we-online.com/redexpert/article/885012005026?ad; ComponentLink2Description: Datasheet Link; ComponentLink2URL: https://www.we-online.com/redexpert/spec/885012005026?ad; Mount: Surface Mount; Min Operating Temperature: -55°C; Max Operating Temperature: 125°C; Packaging: Tape and Reel; Length: 1mm; Width: 0.5mm; Height: 0.5mm; Capacitance: 15pF; Ceramic Type: NP0; Rated Voltage (DC): 16V
footprint WCAP-CSGP_0402_L1W0.5H0.5
simulation model 0402_885012005026_15pF
pins: 1, 2

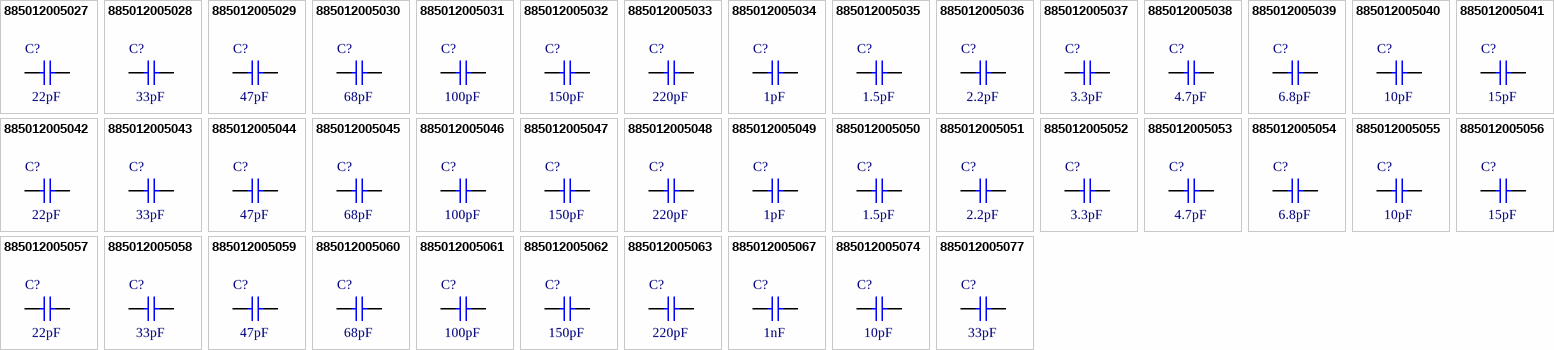
[diagram p1: symbols 885012005027 to 885012005077]

## 885012005027
designator C?, comment 22pF
WCAP-CSGP Multilayer Ceramic Chip Capacitor, General Purpose, size 0402, NP0, 22pF, 16V; Manufacturer Part Number: 885012005027; Manufacturer: Wurth Elektronik; Case/Size Code: 0402; Capacitance Tolerance: +/-5%; Insulation Resistance: 10GΩ; Q Factor: 840; Technical Reference: NP00402220J016DFCT10000; Category: Multilayer Ceramic Chip Capacitors; Match Code: WCAP-CSGP; ComponentLink1Description: Website Link; ComponentLink1URL: https://www.we-online.com/redexpert/article/885012005027?ad; ComponentLink2Description: Datasheet Link; ComponentLink2URL: https://www.we-online.com/redexpert/spec/885012005027?ad; Mount: Surface Mount; Min Operating Temperature: -55°C; Max Operating Temperature: 125°C; Packaging: Tape and Reel; Length: 1mm; Width: 0.5mm; Height: 0.5mm; Capacitance: 22pF; Ceramic Type: NP0; Rated Voltage (DC): 16V
footprint WCAP-CSGP_0402_L1W0.5H0.5
simulation model 0402_885012005027_22pF
pins: 1, 2

## 885012005028
designator C?, comment 33pF
WCAP-CSGP Multilayer Ceramic Chip Capacitor, General Purpose, size 0402, NP0, 33pF, 16V; Manufacturer Part Number: 885012005028; Manufacturer: Wurth Elektronik; Case/Size Code: 0402; Capacitance Tolerance: +/-5%; Insulation Resistance: 10GΩ; Q Factor: 1000; Technical Reference: NP00402330J016DFCT10000; Category: Multilayer Ceramic Chip Capacitors; Match Code: WCAP-CSGP; ComponentLink1Description: Website Link; ComponentLink1URL: https://www.we-online.com/redexpert/article/885012005028?ad; ComponentLink2Description: Datasheet Link; ComponentLink2URL: https://www.we-online.com/redexpert/spec/885012005028?ad; Mount: Surface Mount; Min Operating Temperature: -55°C; Max Operating Temperature: 125°C; Packaging: Tape and Reel; Length: 1mm; Width: 0.5mm; Height: 0.5mm; Capacitance: 33pF; Ceramic Type: NP0; Rated Voltage (DC): 16V
footprint WCAP-CSGP_0402_L1W0.5H0.5
simulation model 0402_885012005028_33pF
pins: 1, 2

## 885012005029
designator C?, comment 47pF
WCAP-CSGP Multilayer Ceramic Chip Capacitor, General Purpose, size 0402, NP0, 47pF, 16V; Manufacturer Part Number: 885012005029; Manufacturer: Wurth Elektronik; Case/Size Code: 0402; Capacitance Tolerance: +/-5%; Insulation Resistance: 10GΩ; Q Factor: 1000; Technical Reference: NP00402470J016DFCT10000; Category: Multilayer Ceramic Chip Capacitors; Match Code: WCAP-CSGP; ComponentLink1Description: Website Link; ComponentLink1URL: https://www.we-online.com/redexpert/article/885012005029?ad; ComponentLink2Description: Datasheet Link; ComponentLink2URL: https://www.we-online.com/redexpert/spec/885012005029?ad; Mount: Surface Mount; Min Operating Temperature: -55°C; Max Operating Temperature: 125°C; Packaging: Tape and Reel; Length: 1mm; Width: 0.5mm; Height: 0.5mm; Capacitance: 47pF; Ceramic Type: NP0; Rated Voltage (DC): 16V
footprint WCAP-CSGP_0402_L1W0.5H0.5
simulation model 0402_885012005029_47pF
pins: 1, 2

## 885012005030
designator C?, comment 68pF
WCAP-CSGP Multilayer Ceramic Chip Capacitor, General Purpose, size 0402, NP0, 68pF, 16V; Manufacturer Part Number: 885012005030; Manufacturer: Wurth Elektronik; Case/Size Code: 0402; Capacitance Tolerance: +/-5%; Insulation Resistance: 10GΩ; Q Factor: 1000; Technical Reference: NP00402680J016DFCT10000; Category: Multilayer Ceramic Chip Capacitors; Match Code: WCAP-CSGP; ComponentLink1Description: Website Link; ComponentLink1URL: https://www.we-online.com/redexpert/article/885012005030?ad; ComponentLink2Description: Datasheet Link; ComponentLink2URL: https://www.we-online.com/redexpert/spec/885012005030?ad; Mount: Surface Mount; Min Operating Temperature: -55°C; Max Operating Temperature: 125°C; Packaging: Tape and Reel; Length: 1mm; Width: 0.5mm; Height: 0.5mm; Capacitance: 68pF; Ceramic Type: NP0; Rated Voltage (DC): 16V
footprint WCAP-CSGP_0402_L1W0.5H0.5
simulation model 0402_885012005030_68pF
pins: 1, 2

## 885012005031
designator C?, comment 100pF
WCAP-CSGP Multilayer Ceramic Chip Capacitor, General Purpose, size 0402, NP0, 100pF, 16V; Manufacturer Part Number: 885012005031; Manufacturer: Wurth Elektronik; Case/Size Code: 0402; Capacitance Tolerance: +/-5%; Insulation Resistance: 10GΩ; Q Factor: 1000; Technical Reference: NP00402101J016DFCT10000; Category: Multilayer Ceramic Chip Capacitors; Match Code: WCAP-CSGP; ComponentLink1Description: Website Link; ComponentLink1URL: https://www.we-online.com/redexpert/article/885012005031?ad; ComponentLink2Description: Datasheet Link; ComponentLink2URL: https://www.we-online.com/redexpert/spec/885012005031?ad; Mount: Surface Mount; Min Operating Temperature: -55°C; Max Operating Temperature: 125°C; Packaging: Tape and Reel; Length: 1mm; Width: 0.5mm; Height: 0.5mm; Capacitance: 100pF; Ceramic Type: NP0; Rated Voltage (DC): 16V
footprint WCAP-CSGP_0402_L1W0.5H0.5
simulation model 0402_885012005031_100pF
pins: 1, 2

## 885012005032
designator C?, comment 150pF
WCAP-CSGP Multilayer Ceramic Chip Capacitor, General Purpose, size 0402, NP0, 150pF, 16V; Manufacturer Part Number: 885012005032; Manufacturer: Wurth Elektronik; Case/Size Code: 0402; Capacitance Tolerance: +/-5%; Insulation Resistance: 10GΩ; Q Factor: 1000; Technical Reference: NP00402151J016DFCT10000; Category: Multilayer Ceramic Chip Capacitors; Match Code: WCAP-CSGP; ComponentLink1Description: Website Link; ComponentLink1URL: https://www.we-online.com/redexpert/article/885012005032?ad; ComponentLink2Description: Datasheet Link; ComponentLink2URL: https://www.we-online.com/redexpert/spec/885012005032?ad; Mount: Surface Mount; Min Operating Temperature: -55°C; Max Operating Temperature: 125°C; Packaging: Tape and Reel; Length: 1mm; Width: 0.5mm; Height: 0.5mm; Capacitance: 150pF; Ceramic Type: NP0; Rated Voltage (DC): 16V
footprint WCAP-CSGP_0402_L1W0.5H0.5
simulation model 0402_885012005032_150pF
pins: 1, 2

## 885012005033
designator C?, comment 220pF
WCAP-CSGP Multilayer Ceramic Chip Capacitor, General Purpose, size 0402, NP0, 220pF, 16V; Manufacturer Part Number: 885012005033; Manufacturer: Wurth Elektronik; Case/Size Code: 0402; Capacitance Tolerance: +/-5%; Insulation Resistance: 10GΩ; Q Factor: 1000; Technical Reference: NP00402221J016DFCT10000; Category: Multilayer Ceramic Chip Capacitors; Match Code: WCAP-CSGP; ComponentLink1Description: Website Link; ComponentLink1URL: https://www.we-online.com/redexpert/article/885012005033?ad; ComponentLink2Description: Datasheet Link; ComponentLink2URL: https://www.we-online.com/redexpert/spec/885012005033?ad; Mount: Surface Mount; Min Operating Temperature: -55°C; Max Operating Temperature: 125°C; Packaging: Tape and Reel; Length: 1mm; Width: 0.5mm; Height: 0.5mm; Capacitance: 220pF; Ceramic Type: NP0; Rated Voltage (DC): 16V
footprint WCAP-CSGP_0402_L1W0.5H0.5
simulation model 0402_885012005033_220pF
pins: 1, 2

## 885012005034
designator C?, comment 1pF
WCAP-CSGP Multilayer Ceramic Chip Capacitor, General Purpose, size 0402, NP0, 1pF, 25V; Manufacturer Part Number: 885012005034; Manufacturer: Wurth Elektronik; Case/Size Code: 0402; Capacitance Tolerance: +/-0.5pF; Insulation Resistance: 10GΩ; Q Factor: 420; Technical Reference: NP004021R0D025DFCT10000; Category: Multilayer Ceramic Chip Capacitors; Match Code: WCAP-CSGP; ComponentLink1Description: Website Link; ComponentLink1URL: https://www.we-online.com/redexpert/article/885012005034?ad; ComponentLink2Description: Datasheet Link; ComponentLink2URL: https://www.we-online.com/redexpert/spec/885012005034?ad; Mount: Surface Mount; Min Operating Temperature: -55°C; Max Operating Temperature: 125°C; Packaging: Tape and Reel; Length: 1mm; Width: 0.5mm; Height: 0.5mm; Capacitance: 1pF; Ceramic Type: NP0; Rated Voltage (DC): 25V
footprint WCAP-CSGP_0402_L1W0.5H0.5
simulation model 0402_885012005034_1pF
pins: 1, 2

## 885012005035
designator C?, comment 1.5pF
WCAP-CSGP Multilayer Ceramic Chip Capacitor, General Purpose, size 0402, NP0, 1.5pF, 25V; Manufacturer Part Number: 885012005035; Manufacturer: Wurth Elektronik; Case/Size Code: 0402; Capacitance Tolerance: +/-0.5pF; Insulation Resistance: 10GΩ; Q Factor: 430; Technical Reference: NP004021R5D025DFCT10000; Category: Multilayer Ceramic Chip Capacitors; Match Code: WCAP-CSGP; ComponentLink1Description: Website Link; ComponentLink1URL: https://www.we-online.com/redexpert/article/885012005035?ad; ComponentLink2Description: Datasheet Link; ComponentLink2URL: https://www.we-online.com/redexpert/spec/885012005035?ad; Mount: Surface Mount; Min Operating Temperature: -55°C; Max Operating Temperature: 125°C; Packaging: Tape and Reel; Length: 1mm; Width: 0.5mm; Height: 0.5mm; Capacitance: 1.5pF; Ceramic Type: NP0; Rated Voltage (DC): 25V
footprint WCAP-CSGP_0402_L1W0.5H0.5
pins: 1, 2

## 885012005036
designator C?, comment 2.2pF
WCAP-CSGP Multilayer Ceramic Chip Capacitor, General Purpose, size 0402, NP0, 2.2pF, 25V; Manufacturer Part Number: 885012005036; Manufacturer: Wurth Elektronik; Case/Size Code: 0402; Capacitance Tolerance: +/-0.5pF; Insulation Resistance: 10GΩ; Q Factor: 444; Technical Reference: NP004022R2D025DFCT10000; Category: Multilayer Ceramic Chip Capacitors; Match Code: WCAP-CSGP; ComponentLink1Description: Website Link; ComponentLink1URL: https://www.we-online.com/redexpert/article/885012005036?ad; ComponentLink2Description: Datasheet Link; ComponentLink2URL: https://www.we-online.com/redexpert/spec/885012005036?ad; Mount: Surface Mount; Min Operating Temperature: -55°C; Max Operating Temperature: 125°C; Packaging: Tape and Reel; Length: 1mm; Width: 0.5mm; Height: 0.5mm; Capacitance: 2.2pF; Ceramic Type: NP0; Rated Voltage (DC): 25V
footprint WCAP-CSGP_0402_L1W0.5H0.5
pins: 1, 2

## 885012005037
designator C?, comment 3.3pF
WCAP-CSGP Multilayer Ceramic Chip Capacitor, General Purpose, size 0402, NP0, 3.3pF, 25V; Manufacturer Part Number: 885012005037; Manufacturer: Wurth Elektronik; Case/Size Code: 0402; Capacitance Tolerance: +/-0.5pF; Insulation Resistance: 10GΩ; Q Factor: 466; Technical Reference: NP004023R3D025DFCT10000; Category: Multilayer Ceramic Chip Capacitors; Match Code: WCAP-CSGP; ComponentLink1Description: Website Link; ComponentLink1URL: https://www.we-online.com/redexpert/article/885012005037?ad; ComponentLink2Description: Datasheet Link; ComponentLink2URL: https://www.we-online.com/redexpert/spec/885012005037?ad; Mount: Surface Mount; Min Operating Temperature: -55°C; Max Operating Temperature: 125°C; Packaging: Tape and Reel; Length: 1mm; Width: 0.5mm; Height: 0.5mm; Capacitance: 3.3pF; Ceramic Type: NP0; Rated Voltage (DC): 25V
footprint WCAP-CSGP_0402_L1W0.5H0.5
pins: 1, 2